# Altium schematic symbol library LM5146.SchLib: 1 symbol
Pins are listed as number, name and electrical type; pins without a type are passive.

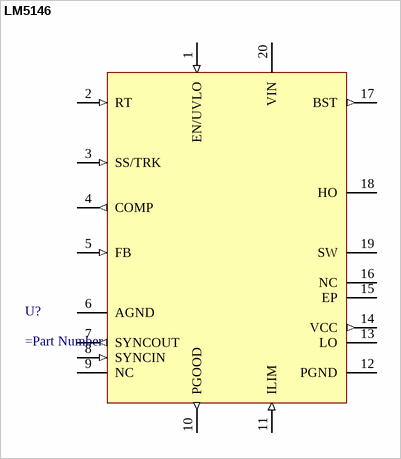
[diagram p0: symbol LM5146]

## LM5146
designator U?
=Description
pins: 1 EN/UVLO (in), 2 RT (in), 3 SS/TRK (in), 4 COMP (out), 5 FB (in), 6 AGND (power), 7 SYNCOUT (out), 8 SYNCIN (in), 9 NC, 10 PGOOD (out), 11 ILIM (in), 12 PGND (power), 13 LO (power), 14 VCC (out), 15 EP, 16 NC, 17 BST (out), 18 HO (power), 19 SW (power), 20 VIN (power)